# EAGLE library part AWM657 (library Custom_old)
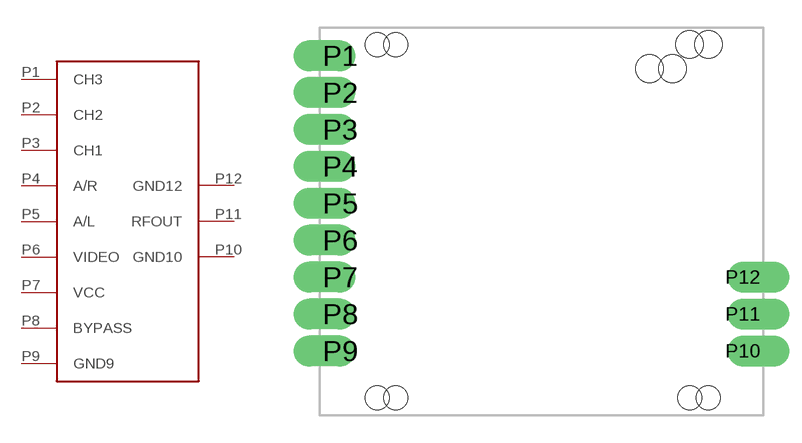
[diagram p10: symbol with the pads of AWM657; footprint AWM657]

Designator prefix -

## AWM657  [AWM657]
P1  CH3
P2  CH2
P3  CH1
P4  A/R
P5  A/L
P6  VIDEO
P7  VCC
P8  BYPASS
P9  GND9
P10  GND10
P11  RFOUT
P12  GND12

## Footprint AWM657 (pad centres in mm)
drill 1.1 pad 1.676 offset: P1 1.1,19.48; P2 1.1,17.48; P3 1.1,15.48; P4 1.1,13.48; P5 1.1,11.48; P6 1.1,9.48; P7 1.1,7.48; P8 1.1,5.48; P9 1.1,3.48; P10 22.9,3.48; P11 22.9,5.48; P12 22.9,7.48
hole 1.5 at 20.02,20.09
hole 1.5 at 21.04,20.09
hole 1.5 at 17.85,18.78
hole 1.5 at 19.09,18.78
hole 1.3 at 4.12,20.09
hole 1.3 at 3.1,20.09
hole 1.3 at 4.12,0.93
hole 1.3 at 3.1,0.93
hole 1.3 at 21.04,0.93
hole 1.3 at 20.02,0.93